# EAGLE library part K140UD7 (library _motovilo)
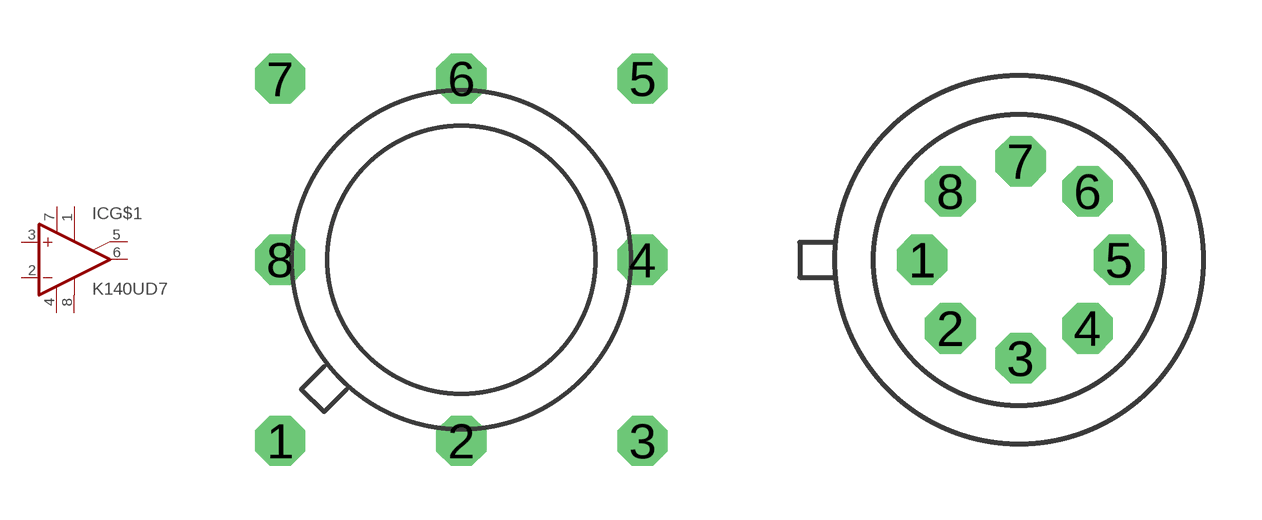
[diagram p25: symbol with the pads of 301.8-2_Q; footprints 301.8-2_Q, 301.8-2]

Designator prefix IC; gates G$1=K140UD7 PWR=PWR+-2

## K140UD7Q  [301.8-2_Q]
1  G$1:BAL1  pas
2  G$1:-IN  in
3  G$1:+IN  in
4  PWR:V-  pwr
5  G$1:BAL2  pas
6  G$1:OUT  out
7  PWR:V+  pwr
8  G$1:CORR  pas

## K140UD7  [301.8-2]
Pads as for 301.8-2_Q

## Footprint 301.8-2_Q (pad centres in mm)
drill 0.9 octagon: 1 -5.08,-5.08; 2 0,-5.08; 3 5.08,-5.08; 4 5.08,0; 5 5.08,5.08; 6 0,5.08; 7 -5.08,5.08; 8 -5.08,0

## Footprint 301.8-2 (pad centres in mm)
Metal can package
drill 0.8 octagon: 1 -2.5,0; 2 -1.768,-1.768; 3 0.04,-2.54; 4 1.768,-1.768; 5 2.58,0; 6 1.768,1.768; 7 0.04,2.54; 8 -1.768,1.768